# Altium schematic symbol library Schematic_Joystick.SchLib: 3 symbols
Pins are listed as number, name and electrical type; pins without a type are passive.

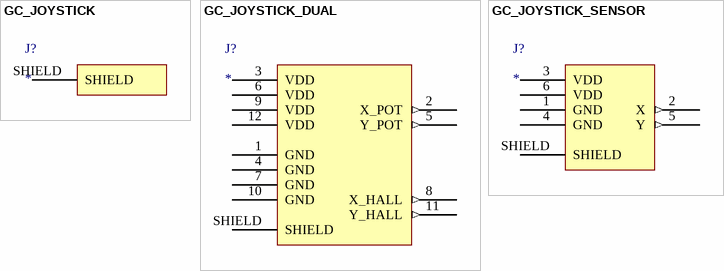
[diagram p0: symbols GC_JOYSTICK to GC_JOYSTICK_SENSOR]

## GC_JOYSTICK
designator J?
footprint GC_JOYSTICK
pins: SHIELD

## GC_JOYSTICK_DUAL
designator J?
footprint GC_JOYSTICK_DUAL
pins: 1 GND (power), 2 X_POT (out), 3 VDD (power), 4 GND (power), 5 Y_POT (out), 6 VDD (power), 7 GND (power), 8 X_HALL (out), 9 VDD (power), 10 GND (power), 11 Y_HALL (out), 12 VDD (power), SHIELD

## GC_JOYSTICK_SENSOR
designator J?
footprint GC_JOYSTICK_POTS
footprint GC_JOYSTICK_HALL
pins: 1 GND (power), 2 X (out), 3 VDD (power), 4 GND (power), 5 Y (out), 6 VDD (power), SHIELD